# Altium footprint library CS_footprints.PcbLib: 90 footprints (part 5 of 6)
Each footprint in its own frame and in the unit in brackets; x right, y up, seen from the top. Pads: shape width x height; smd on the part's side, far side on the other; paste and mask are expansions set on the pad; w line width, h text height; cw(c..) or ccw(c..) is an arc to the next point about the centre after c.
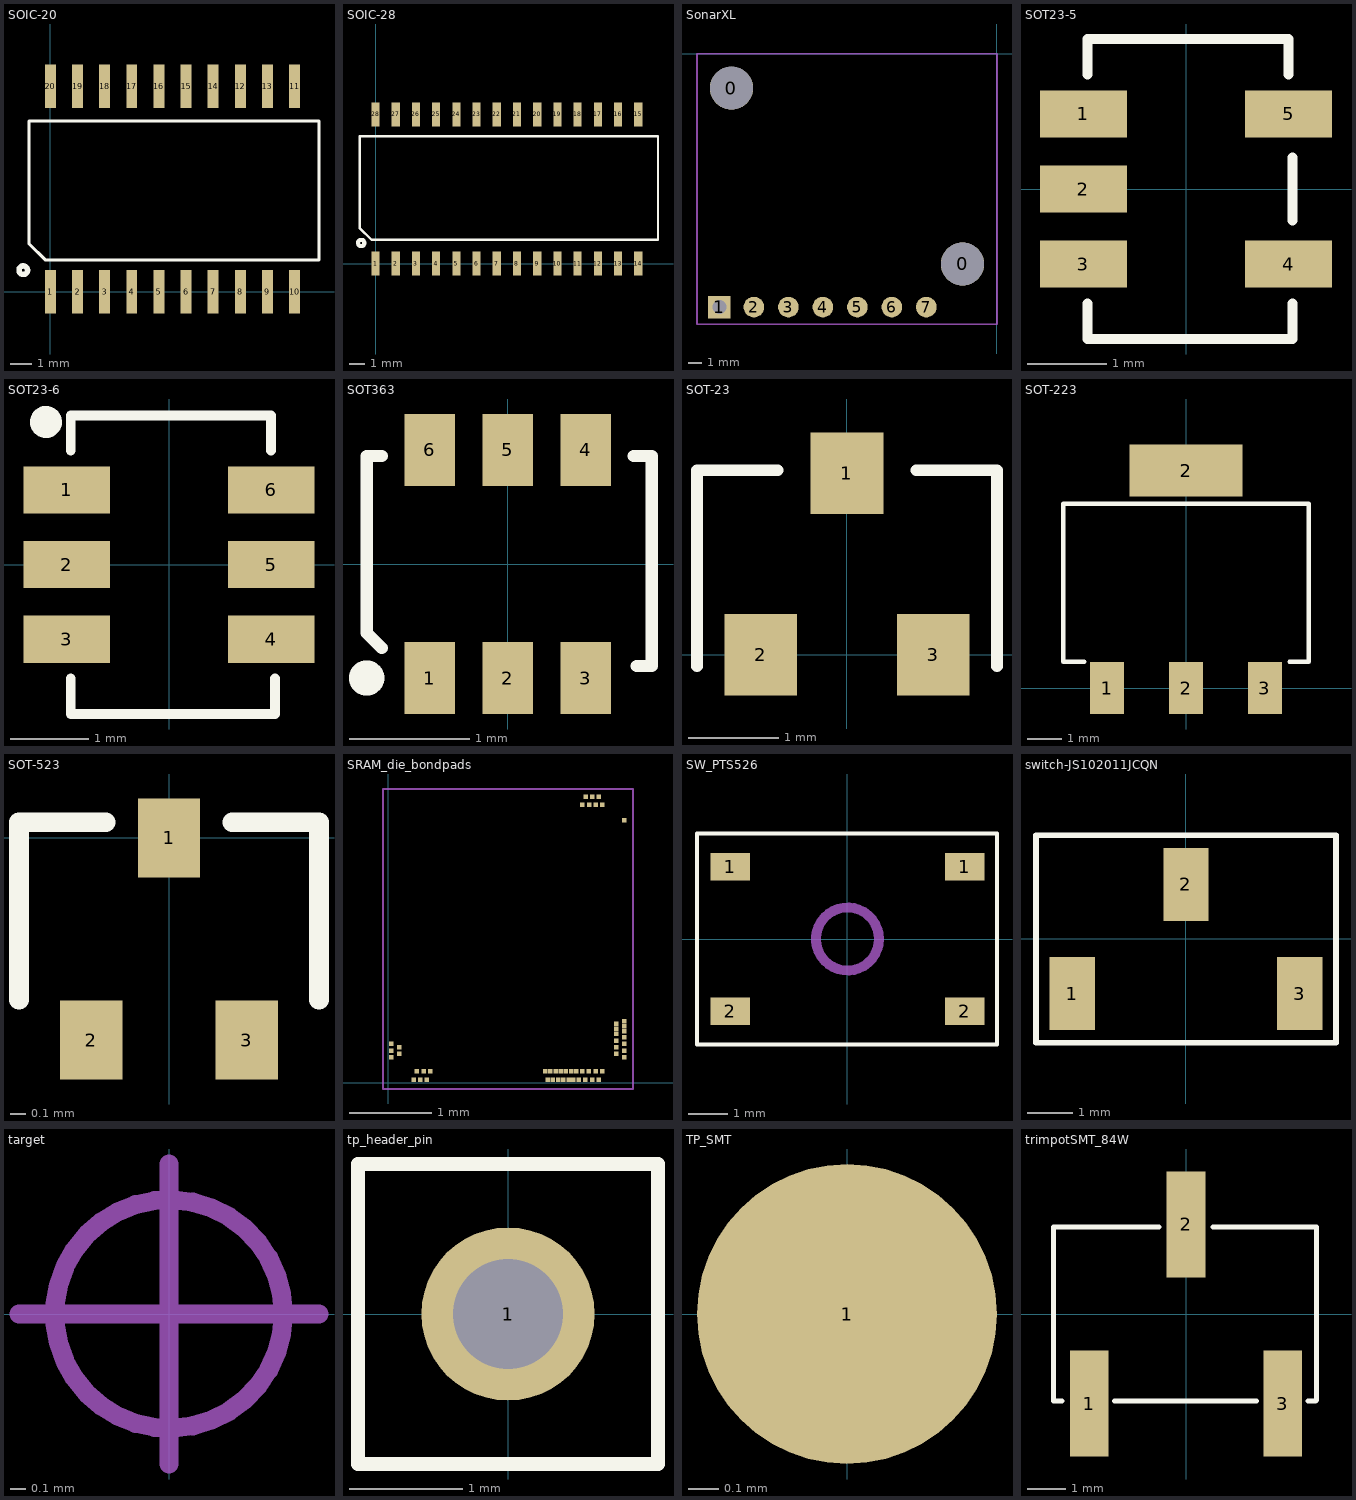
[diagram p4: the footprints below, top view; thin cyan lines are the x and y axes]

## SOIC-20 [mil] "small outline integrated circuit 20-pin"
pads (20):
  rect 20.08x80 smd: 1(0,0) 2(50,0) 3(100,0) 4(150,0) 5(200,0) 6(250,0) 7(300,0) 8(350,0) 9(400,0) 10(450,0) 11(450,379.29) 12(350,379.29) 13(400,379.29) 14(300,379.29) 15(250,379.29) 16(200,379.29) 17(150,379.29) 18(100,379.29) 19(50,379.29) 20(0,379.29)
Top Overlay:
  circle w10: c-50,40 r7.87
  lines w5.91: -39.37,88.58 -9.84,59.06 495,59.06 495,314.96 -39.37,314.96 -39.37,88.58

## SOIC-28 [mm]
pads (28):
  rect 0.51x1.5 smd: 1(0,0) 2(1.27,0) 3(2.54,0) 4(3.81,0) 5(5.08,0) 6(6.35,0) 7(7.62,0) 8(8.89,0) 9(10.16,0) 10(11.43,0) 11(12.7,0) 12(13.97,0) 13(15.24,0) 14(16.51,0) 15(16.51,9.38) 16(15.24,9.38) 17(13.97,9.38) 18(12.7,9.38) 19(11.43,9.38) 20(10.16,9.38) 21(8.89,9.38) 22(7.62,9.38) 23(6.35,9.38) 24(5.08,9.38) 25(3.81,9.38) 26(2.54,9.38) 27(1.27,9.38) 28(0,9.38)
Top Overlay:
  circle w0.254: c-0.9,1.3 r0.2
  lines w0.15: -1,2.25 -0.25,1.5 17.75,1.5 17.75,8 -1,8 -1,2.25

## SonarXL [mil] "module for object distance sensing using sonar"
pads (9):
  round 125 hole 125: 0(-770,-100) 0(-100,-610)
  rect 65x65 hole 40: 1(-805,-735)
  round 60 all layers, no hole: 2(-705,-735) 3(-605,-735) 4(-505,-735) 5(-405,-735) 6(-305,-735) 7(-205,-735)
3D Bottom:
  lines w5: -870,-785 0,-785 0,0 -870,0 -870,-785

## SOT23-5 [mm]
pads (5):
  rect 1.1x0.6 smd mask+0: 1(-1.3,0.95) 2(-1.3,0) 3(-1.3,-0.95) 4(1.3,-0.95) 5(1.3,0.95)
Top Overlay:
  lines w0.127: -1.25,-1.45 -1.25,-1.9 1.35,-1.9 1.35,-1.45 ; -1.25,1.45 -1.25,1.9 1.3,1.9 1.3,1.45 ; 1.35,-0.4 1.35,0.4

## SOT23-6 [mm]
pads (6):
  rect 1.1x0.6 smd mask+0: 1(-1.3,0.95) 2(-1.3,0) 3(-1.3,-0.95) 4(1.3,-0.95) 5(1.3,0) 6(1.3,0.95)
Top Overlay:
  lines w0.127: -1.25,-1.45 -1.25,-1.9 1.35,-1.9 1.35,-1.45 ; -1.25,1.45 -1.25,1.9 1.3,1.9 1.3,1.45
  lines w0.203: -1.463,1.815 cw(c-1.565,1.815) -1.464,1.822

## SOT363 [mm]
pads (6):
  rect 0.42x0.6 smd mask+0.064: 1(-0.65,-0.95) 2(0,-0.95) 3(0.65,-0.95) 4(0.65,0.95) 5(0,0.95) 6(-0.65,0.95)
Top Overlay:
  circle w0.254: c-1.175,-0.95 r0.02
  lines w0.102: -1.05,-0.7 -1.175,-0.575 -1.175,0.9 -1.05,0.9 ; 1.05,0.9 1.2,0.9 1.2,-0.85 1.075,-0.85

## SOT-23 [mm]
pads (3):
  rect 0.8x0.9 smd mask+0: 1(0,2) 2(-0.95,0) 3(0.95,0)
Top Overlay:
  lines w0.127: -1.651,-0.127 -1.651,2.032 -0.762,2.032 ; 0.762,2.032 1.651,2.032 1.651,-0.127

## SOT-223 [mil]
pads (4):
  rect 39x59 smd mask+0: 1(-90,0) 2(0,0) 3(90,0)
  rect 129x59 smd mask+0: 2(0,248)
Top Overlay:
  lines w5: -116,30 -140,30 -140,210 140,210 140,30 118,30

## SOT-523 [mm]
pads (3):
  rect 0.4x0.51 smd: 1(0,0) 2(-0.5,-1.3) 3(0.5,-1.3)
Top Overlay:
  lines w0.127: -0.965,-1.041 -0.965,0.102 -0.406,0.102 ; 0.406,0.102 0.965,0.102 0.965,-1.041

## SRAM_die_bondpads [mm] "wirebonding pads on SRAM die - for wirebonding drawing"
pads (53):
  rect 0.055x0.055 smd mask+0: 1(2.88,0.307) 2(2.781,0.35) 3(2.88,0.389) 4(2.781,0.431) 5(2.88,0.472) 6(2.781,0.512) 7(2.88,0.551) 8(2.781,0.594) 9(2.88,0.624) 10(2.781,0.654) 11(2.88,0.686) 12(2.781,0.719) 13(2.88,0.749) 88(2.88,3.199) 89(2.609,3.384) 90(2.568,3.483) 91(2.529,3.384) 92(2.486,3.483) 93(2.448,3.384) 94(2.408,3.483) 95(2.365,3.384) 241(0.036,0.472) 242(0.135,0.432) 243(0.036,0.389) 244(0.135,0.35) 245(0.036,0.307) 246(0.308,0.036) 247(0.349,0.135) 248(0.389,0.036) 249(0.431,0.135) 250(0.469,0.036) 251(0.51,0.135) 294(1.915,0.135) 295(1.946,0.036) 296(1.976,0.135) 297(2.007,0.036) 298(2.041,0.135) 299(2.07,0.036) 300(2.103,0.135) 301(2.135,0.036) 302(2.166,0.135) 303(2.199,0.036) 304(2.228,0.135) 305(2.258,0.036) 306(2.291,0.135) 307(2.324,0.036) 308(2.365,0.135) 309(2.404,0.036) 310(2.444,0.135) 311(2.488,0.036) 312(2.528,0.135) 313(2.565,0.036) 314(2.611,0.135)
Courtyard Top:
  lines w0.025: -0.064,-0.079 2.984,-0.079 2.984,3.579 -0.064,3.579 -0.064,-0.079

## SW_PTS526 [mm] "tactile pushbutton, C&K PTS526, 1.5mm height, G leads, no ground pin"
pads (4):
  rect 1x0.7 smd: 1(-3,1.85) 1(3,1.85) 2(-3,-1.85) 2(3,-1.85)
Top Overlay:
  lines w0.102: -3.85,-2.7 -3.85,2.7 3.825,2.7 3.825,-2.7 -3.85,-2.7
Assembly Top:
  circle w0.254: c0,0 r0.806

## switch-JS102011JCQN [mm] "surface mount slide switch C&K JS series"
pads (3):
  rect 1x1.6 smd: 1(-2.5,-1.2) 2(0,1.2) 3(2.5,-1.2)
Top Overlay:
  lines w0.127: -3.302,-2.286 -3.302,2.286 3.302,2.286 3.302,-2.286 -3.302,-2.286

## target [mil]
Dimensions Top:
  circle w5: c0,0 r30
  lines w5: -39.37,0 39.37,0 ; 0,-39.37 0,39.37

## tp_header_pin [mil] "thru-hole header pin for testpoint"
pads (1):
  round 60 hole 38 mask+0: 1(0,0)
Top Overlay:
  lines w5: -52,-52 52,-52 52,52 -52,52 -52,-52

## TP_SMT [mm] "surface mount testpoint pad"
pads (1):
  round 1 smd: 1(0,0)

## trimpotSMT_84W [mil] "surface mount trimpot ttelectronics pin style W"
pads (3):
  rect 40x110 smd mask+0: 1(-100,-92.5) 2(0,92.5) 3(100,-92.5)
Top Overlay:
  lines w5: -128,-90 -137,-90 -137,90 -28,90 ; -74,-90 73,-90 ; 28,90 135,90 135,-89 134,-90 126,-90